# EAGLE library part TTGO-CALLV1-1.4 (library TTGO T-Call V1.4)
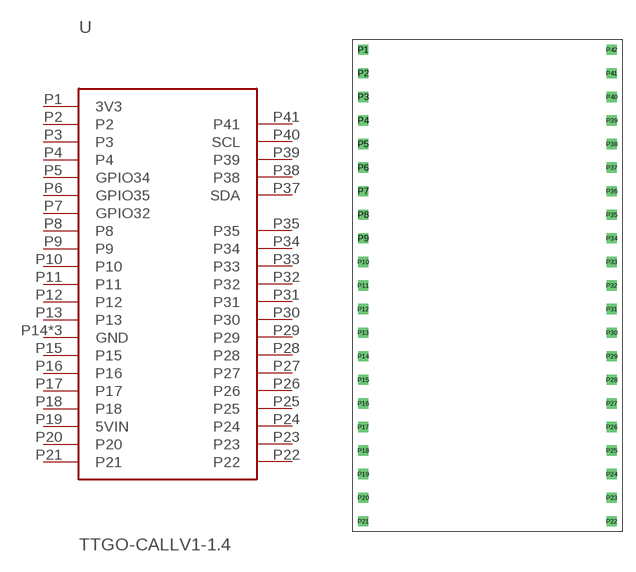
[diagram p0: symbol with the pads of TTGO-CALLV11.4; footprint TTGO-CALLV11.4]

Designator prefix -

## TTGO-CALLV1-1.4  [TTGO-CALLV11.4]
P1  3V3
P2  P2
P3  P3
P4  P4
P5  GPIO34
P6  GPIO35
P7  GPIO32
P8  P8
P9  P9
P10  P10
P11  P11
P12  P12
P13  P13
P14  GND
P15  P15
P16  P16
P17  P17
P18  P18
P19  5VIN
P20  P20
P21  P21
P22  P22
P23  P23
P24  P24
P25  P25
P26  P26
P27  P27
P28  P28
P29  P29
P30  P30
P31  P31
P32  P32
P33  P33
P34  P34
P35  P35
P36  GND
P37  SDA
P38  P38
P39  P39
P40  SCL
P41  P41
P42  GND

## Footprint TTGO-CALLV11.4 (pad centres in mm)
drill 0.6 square: P1 -12.7,11.43; P2 -12.7,8.89; P3 -12.7,6.35; P4 -12.7,3.81; P5 -12.7,1.27; P6 -12.7,-1.27; P7 -12.7,-3.81; P8 -12.7,-6.35; P9 -12.7,-8.89; P10 -12.7,-11.43; P11 -12.7,-13.97; P12 -12.7,-16.51; P13 -12.7,-19.05; P14 -12.7,-21.59; P15 -12.7,-24.13; P16 -12.7,-26.67; P17 -12.7,-29.21; P18 -12.7,-31.75; P19 -12.7,-34.29; P20 -12.7,-36.83; P21 -12.7,-39.37; P22 14.07,-39.37; P23 14.07,-36.83; P24 14.07,-34.29; P25 14.07,-31.75; P26 14.07,-29.21; P27 14.07,-26.67; P28 14.07,-24.13; P29 14.07,-21.59; P30 14.07,-19.05; P31 14.07,-16.51; P32 14.07,-13.97; P33 14.07,-11.43; P34 14.07,-8.89; P35 14.07,-6.35; P36 14.07,-3.81; P37 14.07,-1.27; P38 14.07,1.27; P39 14.07,3.81; P40 14.07,6.35; P41 14.07,8.89; P42 14.07,11.43